# Altium footprint library TRANS_ETD_29.PcbLib: 1 footprints
Each footprint in its own frame and in the unit in brackets; x right, y up, seen from the top. Pads: shape width x height; smd on the part's side, far side on the other; paste and mask are expansions set on the pad; w line width, h text height; cw(c..) or ccw(c..) is an arc to the next point about the centre after c.
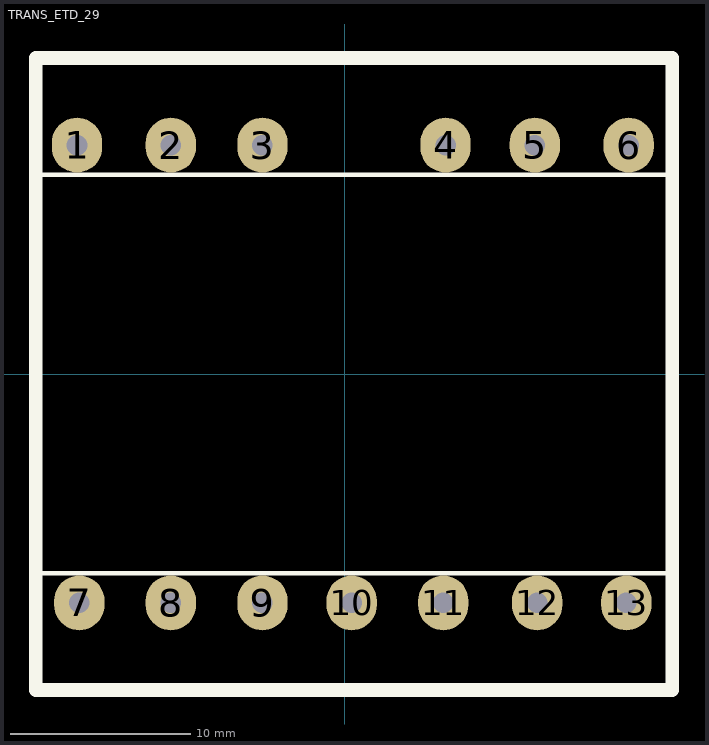
[diagram p0: the footprint, top view; thin cyan lines are the x and y axes]

## TRANS_ETD_29 [mil]
pads (13):
  oval 110x120 hole 45: 1(-585,500) 2(-380,500) 3(-180,500) 4(220,500) 5(415,500) 6(620,500) 7(-580,-500) 8(-380,-500) 9(-180,-500) 10(15,-500) 11(215,-500) 12(420,-500) 13(615,-500)
Top Overlay:
  lines w10: -675,-690 710,-690 710,-435 -675,-435 -675,-690 ; -675,435 715,435 715,690 -675,690 -675,435
  lines w30: -675,-690 715,-690 715,690 -675,690 -675,-690
3D body "User Library-ETD29.STEP": height 976.75, standoff -129.92, extent -675.83,-687.95 710,690